# Altium footprint library CRYSTAL-L200W160H40.PcbLib: 1 footprints
Each footprint in its own frame and in the unit in brackets; x right, y up, seen from the top. Pads: shape width x height; smd on the part's side, far side on the other; paste and mask are expansions set on the pad; w line width, h text height; cw(c..) or ccw(c..) is an arc to the next point about the centre after c.
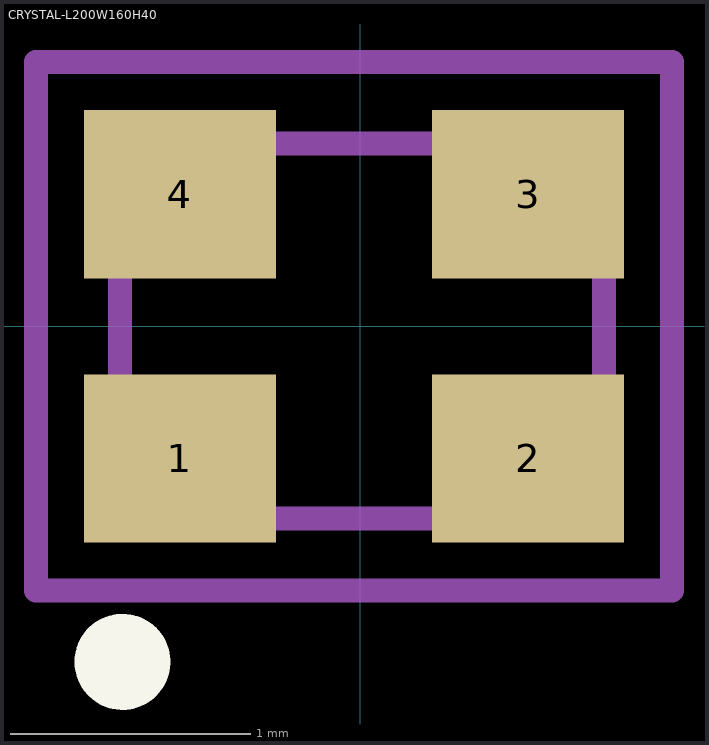
[diagram p0: the footprint, top view; thin cyan lines are the x and y axes]

## CRYSTAL-L200W160H40 [mm]
pads (4):
  rect 0.8x0.7 smd: 1(-0.75,-0.55) 2(0.7,-0.55) 3(0.7,0.55) 4(-0.75,0.55)
Top Overlay:
  circle w0.2: c-0.989,-1.397 r0.1
Mechanical 13:
  lines w0.1: -1,-0.8 1.016,-0.8 1.016,0.762 -1,0.762 -1,-0.8
Mechanical 15:
  lines w0.1: -1.35,-1.1 -1.35,1.1 1.3,1.1 1.3,-1.1 -1.35,-1.1
3D body: height 0.5, standoff -0.05, extent -1.013,-0.8 1.01,0.8